# Altium integrated library Shields.IntLib: 4 symbols
Pins are listed as number, name and electrical type; pins without a type are passive.

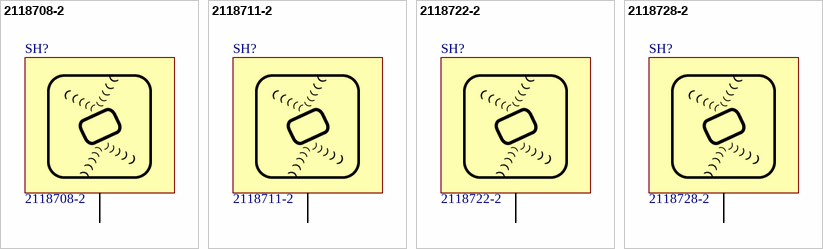
[diagram p0: symbols 2118708-2 to 2118728-2]

## 2118708-2
designator SH?
Manufacturer: TE Connectivity; Supplier 1: Digi-Key; Manufacturer Part Number: 2118708-2; Stock 1: 8835; Pricing 1: 1=1.17, 10=0.936, 50=0.715, 100=0.65 (USD); Value: 2118708-2; Supplier Part Number 1: A126142CT-ND
footprint 2118708-2 (1 PC STD SHIELD, CRS-26.21X26.21)
pins: SH

## 2118711-2
designator SH?
Manufacturer: TE Connectivity; Supplier 1: Digi-Key; Manufacturer Part Number: 2118711-2; Stock 1: 9476; Pricing 1: 1=1.49, 10=1.188, 50=0.9076 (USD); Value: 2118711-2; Supplier Part Number 1: A126147CT-ND
footprint 2118711-2 (1 PC STD SHIELD, CRS-36.83X33.68)
pins: SH

## 2118722-2
designator SH?
STD SHIELD FRAME, CRS-38.10X25.4; Manufacturer: TE Connectivity; Supplier 1: Digi-Key; Manufacturer Part Number: 2118722-2; Stock 1: 9237; Pricing 1: 1 = 1,22000, 10 = 1,08500, 25 = 0,98000, 100 = 0,85750 (USD); Value: 2118722-2; Supplier Part Number 1: A126155CT-ND
footprint 2118722-2
pins: SH

## 2118728-2
designator SH?
EMI Filters; Board Level Shielding (BLS); STD SHIELD FRAME; CRS-29.36X18.50X7.00MM; Manufacturer: TE Connectivity; Supplier 1: Digi-Key; Manufacturer Part Number: 2118728-2; Stock 1: 4317; Pricing 1: 1 = 1,00000, 10 = 0,88800, 25 = 0,80200, 100 = 0,70190 (USD); Value: 2118728-2; Supplier Part Number 1: A126158CT-ND
footprint 2118728-2
pins: SH